# Altium footprint library Nixie.PcbLib: 1 footprints
Each footprint in its own frame and in the unit in brackets; x right, y up, seen from the top. Pads: shape width x height; smd on the part's side, far side on the other; paste and mask are expansions set on the pad; w line width, h text height; cw(c..) or ccw(c..) is an arc to the next point about the centre after c.
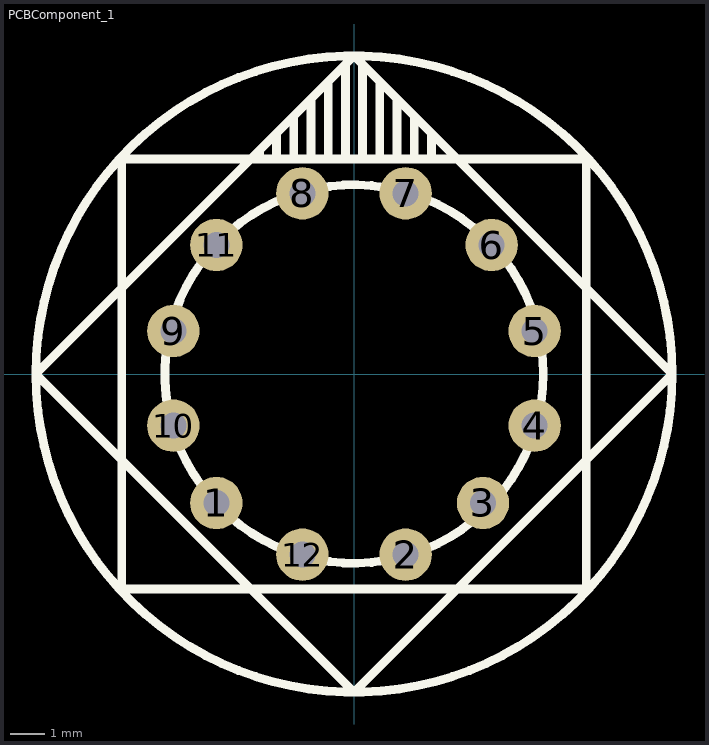
[diagram p0: the footprint, top view; thin cyan lines are the x and y axes]

## PCBComponent_1 [mil]
pads (12):
  round 60 hole 30: 1(-157.48,-147.64) 2(59.06,-206.69) 3(147.64,-147.64) 4(206.69,-59.06) 5(206.69,49.21) 6(157.48,147.64) 7(59.06,206.69) 8(-59.06,206.69) 9(-206.69,49.21) 10(-206.69,-59.06) 11(-157.48,147.64) 12(-59.06,-206.69)
Top Overlay:
  circle w10: c0,0 r216.54
  circle w10: c0,0 r364.17
  lines w10: -108.27,246.06 -108.27,255.91 ; -88.58,246.06 -88.58,275.59 ; -68.9,246.06 -68.9,295.28 ; -49.21,246.06 -49.21,314.96 ; -29.53,246.06 -29.53,334.65 ; -9.84,246.06 -9.84,354.33 ; 9.84,246.06 9.84,354.33 ; 29.53,246.06 29.53,334.65 ; 49.21,246.06 49.21,314.96 ; 68.9,246.06 68.9,295.28 ; 88.58,246.06 88.58,275.59 ; -364.17,0 0,364.17 364.17,0 0,-364.17 -364.17,0 ; -265.75,-246.06 265.75,-246.06 265.75,246.06 -265.75,246.06 -265.75,-246.06